# Altium footprint library Arduino_uno.PcbLib: 1 footprints
Each footprint in its own frame and in the unit in brackets; x right, y up, seen from the top. Pads: shape width x height; smd on the part's side, far side on the other; paste and mask are expansions set on the pad; w line width, h text height; cw(c..) or ccw(c..) is an arc to the next point about the centre after c.
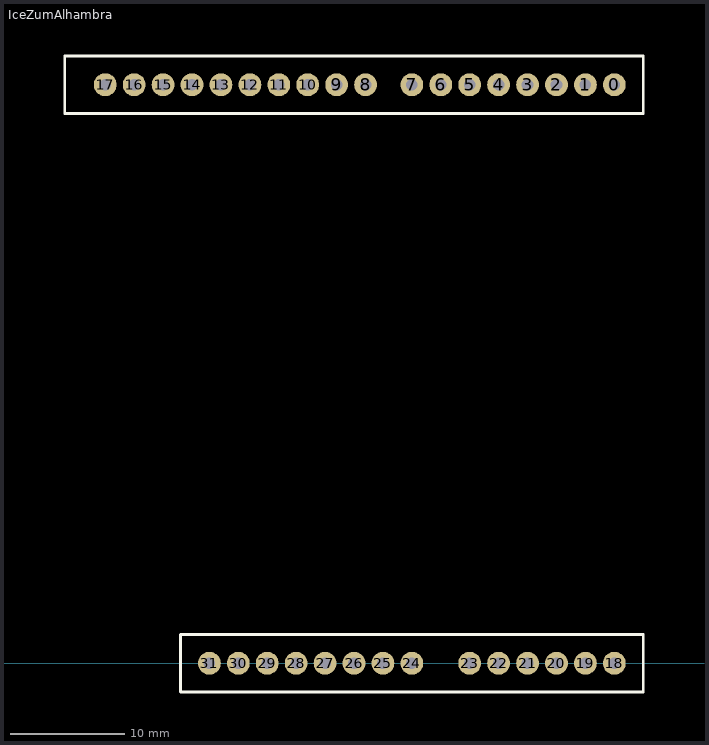
[diagram p0: the footprint, top view; thin cyan lines are the x and y axes]

## IceZumAlhambra [mm]
pads (32):
  round 2 hole 1.02: 0(63.5,50.8) 1(60.96,50.8) 2(58.42,50.8) 3(55.88,50.8) 4(53.34,50.8) 5(50.8,50.8) 6(48.26,50.8) 7(45.72,50.8) 8(41.656,50.8) 9(39.116,50.8) 10(36.576,50.8) 11(34.036,50.8) 12(31.496,50.8) 13(28.956,50.8) 14(26.416,50.8) 15(23.876,50.8) 16(21.336,50.8) 17(18.796,50.8) 18(63.5,0) 19(60.96,0) 20(58.42,0) 21(55.88,0) 22(53.34,0) 23(50.8,0) 24(45.72,0) 25(43.18,0) 26(40.64,0) 27(38.1,0) 28(35.56,0) 29(33.02,0) 30(30.48,0) 31(27.94,0)
Top Overlay:
  lines w0.254: 15.24,48.26 66.04,48.26 66.04,53.34 15.24,53.34 15.24,48.26 ; 25.4,-2.54 66.04,-2.54 66.04,2.54 25.4,2.54 25.4,-2.54